# Altium integrated library Capacitor - Aluminium TH.IntLib: 4591 symbols (part 8 of 68)
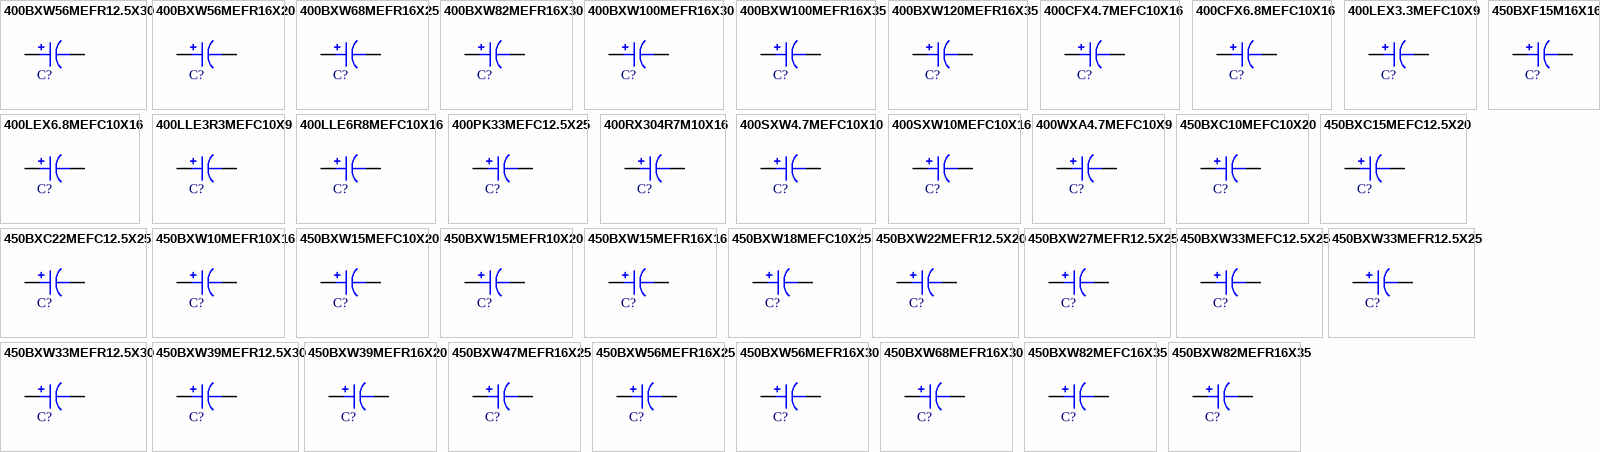
[diagram p121: symbols 400BXW56MEFR12.5X30 to 450BXW82MEFR16X35]

## 450BXW82MEFR16X35
designator C?, comment 82uF  (value not drawn)
CAP ALUM 82UF 20% 450V T/H; Part Number: 450BXW82MEFR16X35; Manufacturer: Rubycon; TemperatureRange: -40C ~ 105C; Type: Polar; Ripple Current: 690mA @ 120Hz; Value: 82uF; PartId: 27436; Supplier 1: Digi-Key; Supplier Part Number 1: 1189-3215-ND; ComponentLink1Description: Datasheet; ComponentLink1URL: http://www.rubycon.co.jp/en/catalog/e_pdfs/aluminum/e_BXW.pdf; ComponentLink2Description: Digi-Key Listing; ComponentLink2URL: https://www.digikey.com/product-detail/en/rubycon/450BXW82MEFR16X35/1189-3215-ND/6050089; Tolerance: 20%; Voltage: 450V; Price: 3.32; Device Package: Radial, Can, 16mm
footprint CAP AL TH D16 L7.5 H37
pins: 1, 2

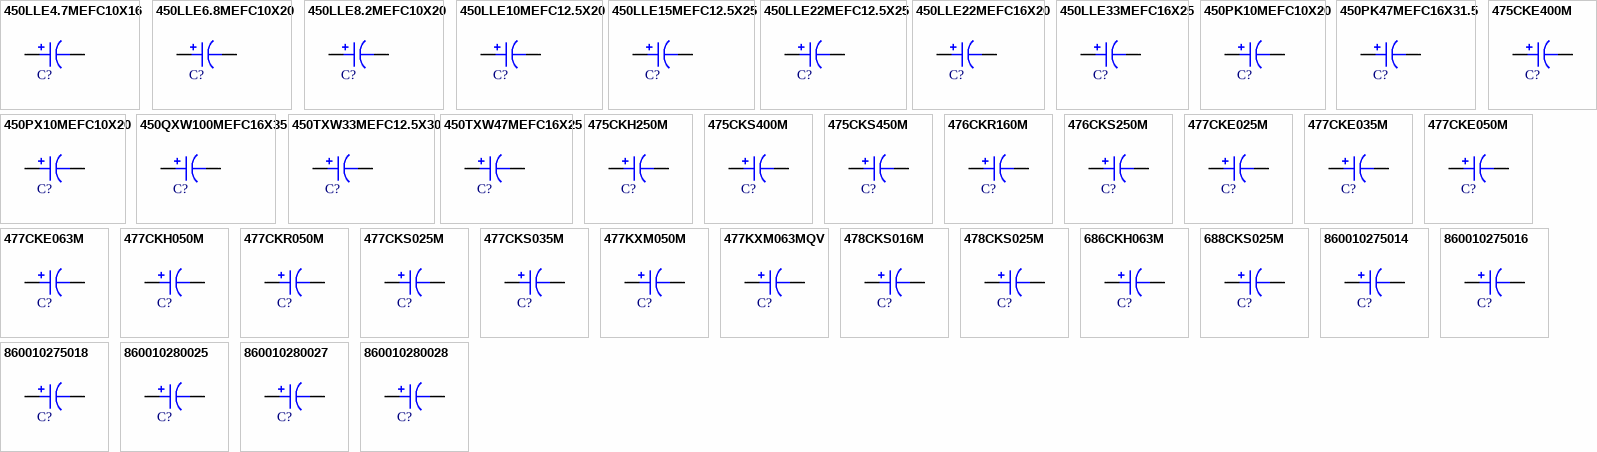
[diagram p12: symbols 450LLE4.7MEFC10X16 to 860010280028]

## 450LLE4.7MEFC10X16
designator C?, comment 4.7uF  (value not drawn)
CAP ALUM 4.7UF 20% 450V RADIAL; Part Number: 450LLE4.7MEFC10X16; Manufacturer: Rubycon; TemperatureRange: -25C ~ 105C; Ripple Current: 54mA; Value: 4.7uF; PartId: 25668; Supplier 1: Digi-Key; Supplier Part Number 1: 1189-2300-ND; ComponentLink1Description: Datasheet; ComponentLink1URL: http://www.rubycon.co.jp/en/catalog/e_pdfs/aluminum/e_lle.pdf; ComponentLink2Description: Digi-Key Listing; ComponentLink2URL: https://www.digikey.com/product-detail/en/rubycon/450LLE4.7MEFC10X16/1189-2300-ND/4842266; Tolerance: 20%; Voltage: 450V; Price: 0.77; Device Package: Radial, Can, 10mm
footprint CAP AL TH D10 L5 H22
pins: 1, 2

## 450LLE6.8MEFC10X20
designator C?, comment 6.8uF  (value not drawn)
CAP ALUM 6.8UF 20% 450V RADIAL; Part Number: 450LLE6.8MEFC10X20; Manufacturer: Rubycon; TemperatureRange: -25C ~ 105C; Ripple Current: 84mA; Value: 6.8uF; PartId: 25970; Supplier 1: Digi-Key; Supplier Part Number 1: 1189-2302-ND; ComponentLink1Description: Datasheet; ComponentLink1URL: http://www.rubycon.co.jp/en/catalog/e_pdfs/aluminum/e_lle.pdf; ComponentLink2Description: Digi-Key Listing; ComponentLink2URL: https://www.digikey.com/product-detail/en/rubycon/450LLE6.8MEFC10X20/1189-2302-ND/4842268; Tolerance: 20%; Voltage: 450V; Price: 0.86; Device Package: Radial, Can, 10mm
footprint CAP AL TH D10 L5 H22
pins: 1, 2

## 450LLE8.2MEFC10X20
designator C?, comment 8.2uF  (value not drawn)
CAP ALUM 8.2UF 20% 450V RADIAL; Part Number: 450LLE8.2MEFC10X20; Manufacturer: Rubycon; TemperatureRange: -25C ~ 105C; Ripple Current: 84mA; Value: 8.2uF; PartId: 25985; Supplier 1: Digi-Key; Supplier Part Number 1: 1189-2303-ND; ComponentLink1Description: Datasheet; ComponentLink1URL: http://www.rubycon.co.jp/en/catalog/e_pdfs/aluminum/e_lle.pdf; ComponentLink2Description: Digi-Key Listing; ComponentLink2URL: https://www.digikey.com/product-detail/en/rubycon/450LLE8.2MEFC10X20/1189-2303-ND/4842269; Tolerance: 20%; Voltage: 450V; Price: 0.94; Device Package: Radial, Can, 10mm
footprint CAP AL TH D10 L5 H22
pins: 1, 2

## 450LLE10MEFC12.5X20
designator C?, comment 10uF  (value not drawn)
CAP ALUM 10UF 20% 450V RADIAL; Part Number: 450LLE10MEFC12.5X20; Manufacturer: Rubycon; TemperatureRange: -25C ~ 105C; Ripple Current: 135mA; Value: 10uF; PartId: 23496; Supplier 1: Digi-Key; Supplier Part Number 1: 1189-2294-ND; ComponentLink1Description: Datasheet; ComponentLink1URL: http://www.rubycon.co.jp/en/catalog/e_pdfs/aluminum/e_lle.pdf; ComponentLink2Description: Digi-Key Listing; ComponentLink2URL: https://www.digikey.com/product-detail/en/rubycon/450LLE10MEFC12.5X20/1189-2294-ND/4842260; Tolerance: 20%; Voltage: 450V; Price: 1.21; Device Package: Radial, Can, 12.5mm
footprint CAP AL TH D12.5 L5 H22
pins: 1, 2

## 450LLE15MEFC12.5X25
designator C?, comment 15uF  (value not drawn)
CAP ALUM 15UF 20% 450V RADIAL; Part Number: 450LLE15MEFC12.5X25; Manufacturer: Rubycon; TemperatureRange: -25C ~ 105C; Ripple Current: 180mA; Value: 15uF; PartId: 24108; Supplier 1: Digi-Key; Supplier Part Number 1: 1189-2295-ND; ComponentLink1Description: Datasheet; ComponentLink1URL: http://www.rubycon.co.jp/en/catalog/e_pdfs/aluminum/e_lle.pdf; ComponentLink2Description: Digi-Key Listing; ComponentLink2URL: https://www.digikey.com/product-detail/en/rubycon/450LLE15MEFC12.5X25/1189-2295-ND/4842261; Tolerance: 20%; Voltage: 450V; Price: 1.36; Device Package: Radial, Can, 12.5mm
footprint CAP AL TH D12.5 L5 H27
pins: 1, 2

## 450LLE22MEFC12.5X25
designator C?, comment 22uF  (value not drawn)
CAP ALUM 22UF 20% 450V RADIAL; Part Number: 450LLE22MEFC12.5X25; Manufacturer: Rubycon; TemperatureRange: -25C ~ 105C; Ripple Current: 240mA; Value: 22uF; PartId: 24170; Supplier 1: Digi-Key; Supplier Part Number 1: 1189-2296-ND; ComponentLink1Description: Datasheet; ComponentLink1URL: http://www.rubycon.co.jp/en/catalog/e_pdfs/aluminum/e_lle.pdf; ComponentLink2Description: Digi-Key Listing; ComponentLink2URL: https://www.digikey.com/product-detail/en/rubycon/450LLE22MEFC12.5X25/1189-2296-ND/4842262; Tolerance: 20%; Voltage: 450V; Price: 1.68; Device Package: Radial, Can, 12.5mm
footprint CAP AL TH D12.5 L5 H27
pins: 1, 2

## 450LLE22MEFC16X20
designator C?, comment 22uF  (value not drawn)
CAP ALUM 22UF 20% 450V RADIAL; Part Number: 450LLE22MEFC16X20; Manufacturer: Rubycon; TemperatureRange: -25C ~ 105C; Ripple Current: 292mA; Value: 22uF; PartId: 26472; Supplier 1: Digi-Key; Supplier Part Number 1: 1189-2297-ND; ComponentLink1Description: Datasheet; ComponentLink1URL: http://www.rubycon.co.jp/en/catalog/e_pdfs/aluminum/e_lle.pdf; ComponentLink2Description: Digi-Key Listing; ComponentLink2URL: https://www.digikey.com/product-detail/en/rubycon/450LLE22MEFC16X20/1189-2297-ND/4842263; Tolerance: 20%; Voltage: 450V; Price: 1.7; Device Package: Radial, Can, 16mm
footprint CAP AL TH D16 L7.5 H22
pins: 1, 2

## 450LLE33MEFC16X25
designator C?, comment 33uF  (value not drawn)
CAP ALUM 33UF 20% 450V RADIAL; Part Number: 450LLE33MEFC16X25; Manufacturer: Rubycon; TemperatureRange: -25C ~ 105C; Ripple Current: 392mA; Value: 33uF; PartId: 26962; Supplier 1: Digi-Key; Supplier Part Number 1: 1189-2298-ND; ComponentLink1Description: Datasheet; ComponentLink1URL: http://www.rubycon.co.jp/en/catalog/e_pdfs/aluminum/e_lle.pdf; ComponentLink2Description: Digi-Key Listing; ComponentLink2URL: https://www.digikey.com/product-detail/en/rubycon/450LLE33MEFC16X25/1189-2298-ND/4842264; Tolerance: 20%; Voltage: 450V; Price: 2.16; Device Package: Radial, Can, 16mm
footprint CAP AL TH D16 L7.5 H27
pins: 1, 2

## 450PK10MEFC10X20
designator C?, comment 10uF  (value not drawn)
CAP ALUM 10UF 20% 450V RADIAL; Part Number: 450PK10MEFC10X20; Manufacturer: Rubycon; TemperatureRange: -25C ~ 85C; Ripple Current: 84mA; Value: 10uF; PartId: 25965; Supplier 1: Digi-Key; Supplier Part Number 1: 1189-2304-ND; ComponentLink1Description: Datasheet; ComponentLink1URL: http://www.rubycon.co.jp/en/catalog/e_pdfs/aluminum/e_pk.pdf; ComponentLink2Description: Digi-Key Listing; ComponentLink2URL: https://www.digikey.com/product-detail/en/rubycon/450PK10MEFC10X20/1189-2304-ND/4842270; Tolerance: 20%; Voltage: 450V; Price: 0.84; Device Package: Radial, Can, 10mm
footprint CAP AL TH D10 L5 H22
pins: 1, 2

## 450PK47MEFC16X31.5
designator C?, comment 47uF  (value not drawn)
CAP ALUM 47UF 20% 450V RADIAL; Part Number: 450PK47MEFC16X31.5; Manufacturer: Rubycon; TemperatureRange: -25C ~ 85C; Ripple Current: 220mA; Value: 47uF; PartId: 27085; Supplier 1: Digi-Key; Supplier Part Number 1: 1189-1372-ND; ComponentLink1Description: Datasheet; ComponentLink1URL: http://www.rubycon.co.jp/en/catalog/e_pdfs/aluminum/e_pk.pdf; ComponentLink2Description: Digi-Key Listing; ComponentLink2URL: https://www.digikey.com/product-detail/en/rubycon/450PK47MEFC16X31.5/1189-1372-ND/3134328; Tolerance: 20%; Voltage: 450V; Price: 1.7; Device Package: Radial, Can, 16mm
footprint CAP AL TH D16 L7.5 H33.5
pins: 1, 2

## 450PX10MEFC10X20
designator C?, comment 10uF  (value not drawn)
CAP ALUM 10UF 20% 450V RADIAL; Part Number: 450PX10MEFC10X20; Manufacturer: Rubycon; TemperatureRange: -25C ~ 105C; Type: Polar; Ripple Current: 37mA; Value: 10uF; PartId: 25963; Supplier 1: Digi-Key; Supplier Part Number 1: 1189-1751-ND; ComponentLink1Description: Datasheet; ComponentLink1URL: http://www.rubycon.co.jp/en/catalog/e_pdfs/aluminum/e_px.pdf; ComponentLink2Description: Digi-Key Listing; ComponentLink2URL: https://www.digikey.com/product-detail/en/rubycon/450PX10MEFC10X20/1189-1751-ND/3563768; Tolerance: 20%; Voltage: 450V; Price: 0.84; Device Package: Radial, Can, 10mm
footprint CAP AL TH D10 L5 H22
pins: 1, 2

## 450QXW100MEFC16X35
designator C?, comment 100uF  (value not drawn)
CAP ALUM 100UF 20% 450V RADIAL; Part Number: 450QXW100MEFC16X35; Manufacturer: Rubycon; TemperatureRange: -40C ~ 105C; Ripple Current: 730mA; Value: 100uF; PartId: 27429; Supplier 1: Digi-Key; Supplier Part Number 1: 1189-1376-ND; ComponentLink1Description: Datasheet; ComponentLink1URL: http://www.rubycon.co.jp/en/catalog/e_pdfs/aluminum/e_qxw.pdf; ComponentLink2Description: Digi-Key Listing; ComponentLink2URL: https://www.digikey.com/product-detail/en/rubycon/450QXW100MEFC16X35/1189-1376-ND/3134332; Tolerance: 20%; Voltage: 450V; Price: 3.03; Device Package: Radial, Can, 16mm
footprint CAP AL TH D16 L7.5 H37
pins: 1, 2

## 450TXW33MEFC12.5X30
designator C?, comment 33uF  (value not drawn)
CAP ALUM 33UF 20% 450V RADIAL; Part Number: 450TXW33MEFC12.5X30; Manufacturer: Rubycon; TemperatureRange: -25C ~ 105C; Type: Polar; Ripple Current: 370mA; Value: 33uF; PartId: 24411; Supplier 1: Digi-Key; Supplier Part Number 1: 1189-1387-ND; ComponentLink1Description: Datasheet; ComponentLink1URL: http://www.rubycon.co.jp/en/catalog/e_pdfs/aluminum/e_txw.pdf; ComponentLink2Description: Digi-Key Listing; ComponentLink2URL: https://www.digikey.com/product-detail/en/rubycon/450TXW33MEFC12.5X30/1189-1387-ND/3134343; Tolerance: 20%; Voltage: 450V; Price: 2.04; Device Package: Radial, Can, 12.5mm
footprint CAP AL TH D12.5 L5 H35.5
pins: 1, 2

## 450TXW47MEFC16X25
designator C?, comment 47uF  (value not drawn)
CAP ALUM 47UF 20% 450V RADIAL; Part Number: 450TXW47MEFC16X25; Manufacturer: Rubycon; TemperatureRange: -25C ~ 105C; Type: Polar; Ripple Current: 440mA; Value: 47uF; PartId: 27177; Supplier 1: Digi-Key; Supplier Part Number 1: 1189-1388-ND; ComponentLink1Description: Datasheet; ComponentLink1URL: http://www.rubycon.co.jp/en/catalog/e_pdfs/aluminum/e_txw.pdf; ComponentLink2Description: Digi-Key Listing; ComponentLink2URL: https://www.digikey.com/product-detail/en/rubycon/450TXW47MEFC16X25/1189-1388-ND/3134344; Tolerance: 20%; Voltage: 450V; Price: 1.94; Device Package: Radial, Can, 16mm
footprint CAP AL TH D16 L7.5 H33.5
pins: 1, 2

## 475CKE400M
designator C?, comment 4.7uF  (value not drawn)
CAP ALUM 4.7UF 20% 400V RADIAL; Part Number: 475CKE400M; Manufacturer: Illinois Capacitor; TemperatureRange: -25C ~ 105C; Type: Polar; Ripple Current: 55mA @ 120Hz; Value: 4.7uF; PartId: 25222; Supplier 1: Digi-Key; Supplier Part Number 1: 1572-1464-ND; ComponentLink1Description: Datasheet; ComponentLink1URL: http://www.illinoiscapacitor.com/pdf/seriesDocuments/CKH_CKE%20series.pdf; ComponentLink2Description: Digi-Key Listing; ComponentLink2URL: https://www.digikey.com/product-detail/en/illinois-capacitor/475CKE400M/1572-1464-ND/5412675; Tolerance: 20%; Voltage: 400V; Price: 0.54; Device Package: Radial, Can, 10mm
footprint CAP AL TH D10 L5 H17.5
pins: 1, 2

## 475CKH250M
designator C?, comment 4.7uF  (value not drawn)
CAP ALUM 4.7UF 20% 250V T/H; Part Number: 475CKH250M; Manufacturer: Illinois Capacitor; TemperatureRange: -25C ~ 105C; Type: Polar; Ripple Current: 60mA @ 120Hz; Value: 4.7uF; PartId: 24855; Supplier 1: Digi-Key; Supplier Part Number 1: 1572-1465-ND; ComponentLink1Description: Datasheet; ComponentLink1URL: http://www.illinoiscapacitor.com/pdf/seriesDocuments/CKH_CKE%20series.pdf; ComponentLink2Description: Digi-Key Listing; ComponentLink2URL: https://www.digikey.com/product-detail/en/illinois-capacitor/475CKH250M/1572-1465-ND/5412679; Tolerance: 20%; Voltage: 250V; Price: 0.47; Device Package: Radial, Can, 10mm
footprint CAP AL TH D10 L5 H14.5
pins: 1, 2

## 475CKS400M
designator C?, comment 4.7uF  (value not drawn)
CAP ALUM 4.7UF 20% 400V T/H; Part Number: 475CKS400M; Manufacturer: Illinois Capacitor; TemperatureRange: -25C ~ 85C; Type: Polar; Ripple Current: 70mA @ 120Hz; Value: 4.7uF; PartId: 25354; Supplier 1: Digi-Key; Supplier Part Number 1: 1572-1467-ND; ComponentLink1Description: Datasheet; ComponentLink1URL: http://www.illinoiscapacitor.com/pdf/seriesDocuments/CKR_CKS%20series.pdf; ComponentLink2Description: Digi-Key Listing; ComponentLink2URL: https://www.digikey.com/product-detail/en/illinois-capacitor/475CKS400M/1572-1467-ND/5412683; Tolerance: 20%; Voltage: 400V; Price: 0.69; Device Package: Radial, Can, 10mm
footprint CAP AL TH D10 L5 H17.5
pins: 1, 2

## 475CKS450M
designator C?, comment 4.7uF  (value not drawn)
CAP ALUM 4.7UF 20% 450V T/H; Part Number: 475CKS450M; Manufacturer: Illinois Capacitor; TemperatureRange: -25C ~ 85C; Type: Polar; Ripple Current: 75mA @ 120Hz; Value: 4.7uF; PartId: 25364; Supplier 1: Digi-Key; Supplier Part Number 1: 1572-1468-ND; ComponentLink1Description: Datasheet; ComponentLink1URL: http://www.illinoiscapacitor.com/pdf/seriesDocuments/CKR_CKS%20series.pdf; ComponentLink2Description: Digi-Key Listing; ComponentLink2URL: https://www.digikey.com/product-detail/en/illinois-capacitor/475CKS450M/1572-1468-ND/5412684; Tolerance: 20%; Voltage: 450V; Price: 0.71; Device Package: Radial, Can, 10mm
footprint CAP AL TH D10 L5 H17.5
pins: 1, 2

## 476CKR160M
designator C?, comment 47uF  (value not drawn)
CAP ALUM 47UF 20% 160V THRU HOLE; Part Number: 476CKR160M; Manufacturer: Illinois Capacitor; TemperatureRange: -25C ~ 85C; Type: Polar; Ripple Current: 270mA @ 120Hz; Value: 47uF; PartId: 23650; Supplier 1: Digi-Key; Supplier Part Number 1: 1572-1479-ND; ComponentLink1Description: Datasheet; ComponentLink1URL: http://www.illinoiscapacitor.com/pdf/seriesDocuments/CKR_CKS%20series.pdf; ComponentLink2Description: Digi-Key Listing; ComponentLink2URL: https://www.digikey.com/product-detail/en/illinois-capacitor/476CKR160M/1572-1479-ND/5412780; Tolerance: 20%; Voltage: 160V; Price: 0.8; Device Package: Radial, Can, 12.5mm
footprint CAP AL TH D12.5 L5 H26.5
pins: 1, 2

## 476CKS250M
designator C?, comment 47uF  (value not drawn)
CAP ALUM 47UF 20% 250V THRU HOLE; Part Number: 476CKS250M; Manufacturer: Illinois Capacitor; TemperatureRange: -25C ~ 85C; Type: Polar; Ripple Current: 350mA @ 120Hz; Value: 47uF; PartId: 23695; Supplier 1: Digi-Key; Supplier Part Number 1: 1572-1481-ND; ComponentLink1Description: Datasheet; ComponentLink1URL: http://www.illinoiscapacitor.com/pdf/seriesDocuments/CKR_CKS%20series.pdf; ComponentLink2Description: Digi-Key Listing; ComponentLink2URL: https://www.digikey.com/product-detail/en/illinois-capacitor/476CKS250M/1572-1481-ND/5412785; Tolerance: 20%; Voltage: 250V; Price: 1.06; Device Package: Radial, Can, 12.5mm
footprint CAP AL TH D12.5 L5 H26.5
pins: 1, 2

## 477CKE025M
designator C?, comment 470uF  (value not drawn)
CAP ALUM 470UF 20% 25V RADIAL; Part Number: 477CKE025M; Manufacturer: Illinois Capacitor; TemperatureRange: -40C ~ 105C; Type: Polar; Ripple Current: 470mA @ 120Hz; Value: 470uF; PartId: 24781; Supplier 1: Digi-Key; Supplier Part Number 1: 1572-1489-ND; ComponentLink1Description: Datasheet; ComponentLink1URL: http://www.illinoiscapacitor.com/pdf/seriesDocuments/CKH_CKE%20series.pdf; ComponentLink2Description: Digi-Key Listing; ComponentLink2URL: https://www.digikey.com/product-detail/en/illinois-capacitor/477CKE025M/1572-1489-ND/5412870; Tolerance: 20%; Voltage: 25V; Price: 0.44; Device Package: Radial, Can, 10mm
footprint CAP AL TH D10 L5 H14.5
pins: 1, 2

## 477CKE035M
designator C?, comment 470uF  (value not drawn)
CAP ALUM 470UF 20% 35V RADIAL; Part Number: 477CKE035M; Manufacturer: Illinois Capacitor; TemperatureRange: -40C ~ 105C; Type: Polar; Ripple Current: 546mA @ 120Hz; Value: 470uF; PartId: 25241; Supplier 1: Digi-Key; Supplier Part Number 1: 1572-1490-ND; ComponentLink1Description: Datasheet; ComponentLink1URL: http://www.illinoiscapacitor.com/pdf/seriesDocuments/CKH_CKE%20series.pdf; ComponentLink2Description: Digi-Key Listing; ComponentLink2URL: https://www.digikey.com/product-detail/en/illinois-capacitor/477CKE035M/1572-1490-ND/5412871; Tolerance: 20%; Voltage: 35V; Price: 0.56; Device Package: Radial, Can, 10mm
footprint CAP AL TH D10 L5 H17.5
pins: 1, 2

## 477CKE050M
designator C?, comment 470uF  (value not drawn)
CAP ALUM 470UF 20% 50V RADIAL; Part Number: 477CKE050M; Manufacturer: Illinois Capacitor; TemperatureRange: -40C ~ 105C; Type: Polar; Ripple Current: 705mA; Value: 470uF; PartId: 25616; Supplier 1: Digi-Key; Supplier Part Number 1: 1572-1148-ND; ComponentLink1Description: Datasheet; ComponentLink1URL: http://www.illinoiscapacitor.com/pdf/seriesDocuments/CKH_CKE%20series.pdf; ComponentLink2Description: Digi-Key Listing; ComponentLink2URL: https://www.digikey.com/product-detail/en/illinois-capacitor/477CKE050M/1572-1148-ND/5344078; Tolerance: 20%; Voltage: 50V; Price: 0.7; Device Package: Radial, Can, 10mm
footprint CAP AL TH D10 L5 H22
pins: 1, 2

## 477CKE063M
designator C?, comment 470uF  (value not drawn)
CAP ALUM 470UF 20% 63V RADIAL; Part Number: 477CKE063M; Manufacturer: Illinois Capacitor; TemperatureRange: -40C ~ 105C; Type: Polar; Ripple Current: 810mA; Value: 470uF; PartId: 22986; Supplier 1: Digi-Key; Supplier Part Number 1: 1572-1149-ND; ComponentLink1Description: Datasheet; ComponentLink1URL: http://www.illinoiscapacitor.com/pdf/seriesDocuments/CKH_CKE%20series.pdf; ComponentLink2Description: Digi-Key Listing; ComponentLink2URL: https://www.digikey.com/product-detail/en/illinois-capacitor/477CKE063M/1572-1149-ND/5344079; Tolerance: 20%; Voltage: 63V; Price: 0; Device Package: Radial, Can, 12.5mm
footprint CAP AL TH D12.5 L5 H21.5
pins: 1, 2

## 477CKH050M
designator C?, comment 470uF  (value not drawn)
RADIAL 105C LYTIC; Part Number: 477CKH050M; Manufacturer: Illinois Capacitor; TemperatureRange: -40C ~ 105C; Tolerance: 20%; Voltage: 50V; Type: Polar; Ripple Current: 630mA; Value: 470uF; PartId: 22949; Supplier 1: Digi-Key; Supplier Part Number 1: 1572-1150-ND; ComponentLink1Description: Datasheet; ComponentLink1URL: http://www.illinoiscapacitor.com/pdf/seriesDocuments/CKH_CKE%20series.pdf; ComponentLink2Description: Digi-Key Listing; ComponentLink2URL: https://www.digikey.com/product-detail/en/illinois-capacitor/477CKH050M/1572-1150-ND/5344080; Price: 0; Device Package: Radial, Can, 12.5mm
footprint CAP AL TH D12.5 L5 H21.5
pins: 1, 2

## 477CKR050M
designator C?, comment 470uF  (value not drawn)
RADIAL 85C LYTIC; Part Number: 477CKR050M; Manufacturer: Illinois Capacitor; TemperatureRange: -40C ~ 85C; Tolerance: 20%; Voltage: 50V; Type: Polar; Ripple Current: 930mA; Value: 470uF; PartId: 22948; Supplier 1: Digi-Key; Supplier Part Number 1: 1572-1151-ND; ComponentLink1Description: Datasheet; ComponentLink1URL: http://www.illinoiscapacitor.com/pdf/seriesDocuments/CKR_CKS%20series.pdf; ComponentLink2Description: Digi-Key Listing; ComponentLink2URL: https://www.digikey.com/product-detail/en/illinois-capacitor/477CKR050M/1572-1151-ND/5344081; Price: 0; Device Package: Radial, Can, 12.5mm
footprint CAP AL TH D12.5 L5 H21.5
pins: 1, 2

## 477CKS025M
designator C?, comment 470uF  (value not drawn)
CAP ALUM 470UF 20% 25V THRU HOLE; Part Number: 477CKS025M; Manufacturer: Illinois Capacitor; TemperatureRange: -40C ~ 85C; Type: Polar; Ripple Current: 630mA @ 120Hz; Value: 470uF; PartId: 24833; Supplier 1: Digi-Key; Supplier Part Number 1: 1572-1491-ND; ComponentLink1Description: Datasheet; ComponentLink1URL: http://www.illinoiscapacitor.com/pdf/seriesDocuments/CKR_CKS%20series.pdf; ComponentLink2Description: Digi-Key Listing; ComponentLink2URL: https://www.digikey.com/product-detail/en/illinois-capacitor/477CKS025M/1572-1491-ND/5412877; Tolerance: 20%; Voltage: 25V; Price: 0.46; Device Package: Radial, Can, 10mm
footprint CAP AL TH D10 L5 H14.5
pins: 1, 2

## 477CKS035M
designator C?, comment 470uF  (value not drawn)
RADIAL 85C LYTIC; Part Number: 477CKS035M; Manufacturer: Illinois Capacitor; TemperatureRange: -40C ~ 85C; Tolerance: 20%; Voltage: 35V; Type: Polar; Ripple Current: 755mA; Value: 470uF; PartId: 25214; Supplier 1: Digi-Key; Supplier Part Number 1: 1572-1152-ND; ComponentLink1Description: Datasheet; ComponentLink1URL: http://www.illinoiscapacitor.com/pdf/seriesDocuments/CKR_CKS%20series.pdf; ComponentLink2Description: Digi-Key Listing; ComponentLink2URL: https://www.digikey.com/product-detail/en/illinois-capacitor/477CKS035M/1572-1152-ND/5344082; Price: 0.52; Device Package: Radial, Can, 10mm
footprint CAP AL TH D10 L5 H17.5
pins: 1, 2

## 477KXM050M
designator C?, comment 470uF  (value not drawn)
RADIAL LOW Z; Part Number: 477KXM050M; Manufacturer: Illinois Capacitor; TemperatureRange: -55C ~ 105C; Tolerance: 20%; Voltage: 50V; Type: Polar; Ripple Current: 1.9A; Value: 470uF; PartId: 22950; Supplier 1: Digi-Key; Supplier Part Number 1: 1572-1153-ND; ComponentLink1Description: Datasheet; ComponentLink1URL: http://www.illinoiscapacitor.com/pdf/seriesDocuments/KXM%20series.pdf; ComponentLink2Description: Digi-Key Listing; ComponentLink2URL: https://www.digikey.com/product-detail/en/illinois-capacitor/477KXM050M/1572-1153-ND/5344083; Price: 0; Device Package: Radial, Can, 12.5mm
footprint CAP AL TH D12.5 L5 H21.5
pins: 1, 2

## 477KXM063MQV
designator C?, comment 470uF  (value not drawn)
RADIAL LOW Z; Part Number: 477KXM063MQV; Manufacturer: Illinois Capacitor; TemperatureRange: -55C ~ 105C; Tolerance: 20%; Voltage: 63V; Type: Polar; Ripple Current: 1.7A; Value: 470uF; PartId: 26564; Supplier 1: Digi-Key; Supplier Part Number 1: 1572-1154-ND; ComponentLink1Description: Datasheet; ComponentLink1URL: http://www.illinoiscapacitor.com/pdf/seriesDocuments/KXM%20series.pdf; ComponentLink2Description: Digi-Key Listing; ComponentLink2URL: https://www.digikey.com/product-detail/en/illinois-capacitor/477KXM063MQV/1572-1154-ND/5344084; Price: 1.12; Device Package: Radial, Can, 16mm
footprint CAP AL TH D16 L7.5 H26.5
pins: 1, 2

## 478CKS016M
designator C?, comment 4700uF  (value not drawn)
CAP ALUM 4700UF 20% 16V T/H; Part Number: 478CKS016M; Manufacturer: Illinois Capacitor; TemperatureRange: -40C ~ 85C; Type: Polar; Ripple Current: 2.49A @ 120Hz; Value: 4700uF; PartId: 26630; Supplier 1: Digi-Key; Supplier Part Number 1: 1572-1498-ND; ComponentLink1Description: Datasheet; ComponentLink1URL: http://www.illinoiscapacitor.com/pdf/seriesDocuments/CKR_CKS%20series.pdf; ComponentLink2Description: Digi-Key Listing; ComponentLink2URL: https://www.digikey.com/product-detail/en/illinois-capacitor/478CKS016M/1572-1498-ND/5412976; Tolerance: 20%; Voltage: 16V; Price: 1.44; Device Package: Radial, Can, 16mm
footprint CAP AL TH D16 L7.5 H26.5
pins: 1, 2

## 478CKS025M
designator C?, comment 4700uF  (value not drawn)
RADIAL 85C LYTIC; Part Number: 478CKS025M; Manufacturer: Illinois Capacitor; TemperatureRange: -40C ~ 85C; Tolerance: 20%; Voltage: 25V; Type: Polar; Ripple Current: 2.855A; Value: 4700uF; PartId: 27188; Supplier 1: Digi-Key; Supplier Part Number 1: 1572-1158-ND; ComponentLink1Description: Datasheet; ComponentLink1URL: http://www.illinoiscapacitor.com/pdf/seriesDocuments/CKR_CKS%20series.pdf; ComponentLink2Description: Digi-Key Listing; ComponentLink2URL: https://www.digikey.com/product-detail/en/illinois-capacitor/478CKS025M/1572-1158-ND/5344088; Price: 1.97; Device Package: Radial, Can, 16mm
footprint CAP AL TH D16 L7.5 H33.5
pins: 1, 2

## 686CKH063M
designator C?, comment 68uF  (value not drawn)
CAP ALUM 68UF 20% 63V THRU HOLE; Part Number: 686CKH063M; Manufacturer: Illinois Capacitor; TemperatureRange: -40C ~ 105C; Type: Polar; Ripple Current: 190mA @ 120Hz; Value: 68uF; PartId: 24804; Supplier 1: Digi-Key; Supplier Part Number 1: 1572-1511-ND; ComponentLink1Description: Datasheet; ComponentLink1URL: http://www.illinoiscapacitor.com/pdf/seriesDocuments/CKH_CKE%20series.pdf; ComponentLink2Description: Digi-Key Listing; ComponentLink2URL: https://www.digikey.com/product-detail/en/illinois-capacitor/686CKH063M/1572-1511-ND/5413267; Tolerance: 20%; Voltage: 63V; Price: 0.45; Device Package: Radial, Can, 10mm
footprint CAP AL TH D10 L5 H14.5
pins: 1, 2

## 688CKS025M
designator C?, comment 6800uF  (value not drawn)
CAP ALUM 6800UF 20% 25V T/H; Part Number: 688CKS025M; Manufacturer: Illinois Capacitor; TemperatureRange: -40C ~ 85C; Type: Polar; Ripple Current: 2.6A @ 120Hz; Value: 6800uF; PartId: 27388; Supplier 1: Digi-Key; Supplier Part Number 1: 1572-1512-ND; ComponentLink1Description: Datasheet; ComponentLink1URL: http://www.illinoiscapacitor.com/pdf/seriesDocuments/CKR_CKS%20series.pdf; ComponentLink2Description: Digi-Key Listing; ComponentLink2URL: https://www.digikey.com/product-detail/en/illinois-capacitor/688CKS025M/1572-1512-ND/5413336; Tolerance: 20%; Voltage: 25V; Price: 1.93; Device Package: Radial, Can, 16mm
footprint CAP AL TH D16 L7.5 H37
pins: 1, 2

## 860010275014
designator C?, comment 820uF  (value not drawn)
CAP 820 UF 20% 10 V; Part Number: 860010275014; Manufacturer: Wurth Electronics Inc; TemperatureRange: -40C ~ 85C; Voltage: 10V; Type: Polar; Ripple Current: 671mA @ 120Hz; Value: 820uF; PartId: 24694; Supplier 1: Digi-Key; Supplier Part Number 1: 732-8711-1-ND; ComponentLink1Description: Datasheet; ComponentLink1URL: http://katalog.we-online.de/pbs/datasheet/860010275014.pdf; ComponentLink2Description: Digi-Key Listing; ComponentLink2URL: https://www.digikey.com/product-detail/en/wurth-electronics-inc/860010275014/732-8711-1-ND/5728663; Tolerance: 20%; Price: 0.36; Device Package: Radial, Can, 10mm
footprint CAP AL TH D10 L5 H14.5
pins: 1, 2

## 860010275016
designator C?, comment 1000uF  (value not drawn)
CAP 1000 UF 20% 10 V; Part Number: 860010275016; Manufacturer: Wurth Electronics Inc; TemperatureRange: -40C ~ 85C; Voltage: 10V; Type: Polar; Ripple Current: 726mA @ 120Hz; Value: 1000uF; PartId: 24731; Supplier 1: Digi-Key; Supplier Part Number 1: 732-8713-1-ND; ComponentLink1Description: Datasheet; ComponentLink1URL: http://katalog.we-online.de/pbs/datasheet/860010275016.pdf; ComponentLink2Description: Digi-Key Listing; ComponentLink2URL: https://www.digikey.com/product-detail/en/wurth-electronics-inc/860010275016/732-8713-1-ND/5728665; Tolerance: 20%; Price: 0.41; Device Package: Radial, Can, 10mm
footprint CAP AL TH D10 L5 H14.5
pins: 1, 2

## 860010275018
designator C?, comment 1500uF  (value not drawn)
CAP 1500 UF 20% 10 V; Part Number: 860010275018; Manufacturer: Wurth Electronics Inc; TemperatureRange: -40C ~ 85C; Voltage: 10V; Type: Polar; Ripple Current: 1.001A @ 120Hz; Value: 1500uF; PartId: 25117; Supplier 1: Digi-Key; Supplier Part Number 1: 732-8715-3-ND; ComponentLink1Description: Datasheet; ComponentLink1URL: http://katalog.we-online.de/pbs/datasheet/860010275018.pdf; ComponentLink2Description: Digi-Key Listing; ComponentLink2URL: https://www.digikey.com/product-detail/en/wurth-electronics-inc/860010275018/732-8715-3-ND/5726959; Tolerance: 20%; Price: 0.32; Device Package: Radial, Can, 10mm
footprint CAP AL TH D10 L5 H17.5
pins: 1, 2

## 860010280025
designator C?, comment 5600uF  (value not drawn)
CAP 5600 UF 20% 10 V; Part Number: 860010280025; Manufacturer: Wurth Electronics Inc; TemperatureRange: -40C ~ 85C; Voltage: 10V; Type: Polar; Ripple Current: 2.189A @ 120Hz; Value: 5600uF; PartId: 26551; Supplier 1: Digi-Key; Supplier Part Number 1: 732-8722-3-ND; ComponentLink1Description: Datasheet; ComponentLink1URL: http://katalog.we-online.de/pbs/datasheet/860010280025.pdf; ComponentLink2Description: Digi-Key Listing; ComponentLink2URL: https://www.digikey.com/product-detail/en/wurth-electronics-inc/860010280025/732-8722-3-ND/5726966; Tolerance: 20%; Price: 1.0569; Device Package: Radial, Can, 16mm
footprint CAP AL TH D16 L7.5 H26.5
pins: 1, 2

## 860010280027
designator C?, comment 8200uF  (value not drawn)
CAP 8200 UF 20% 10 V; Part Number: 860010280027; Manufacturer: Wurth Electronics Inc; TemperatureRange: -40C ~ 85C; Voltage: 10V; Type: Polar; Ripple Current: 2.541A @ 120Hz; Value: 8200uF; PartId: 27016; Supplier 1: Digi-Key; Supplier Part Number 1: 732-8724-3-ND; ComponentLink1Description: Datasheet; ComponentLink1URL: http://katalog.we-online.de/pbs/datasheet/860010280027.pdf; ComponentLink2Description: Digi-Key Listing; ComponentLink2URL: https://www.digikey.com/product-detail/en/wurth-electronics-inc/860010280027/732-8724-3-ND/5726968; Tolerance: 20%; Price: 1.4256; Device Package: Radial, Can, 16mm
footprint CAP AL TH D16 L7.5 H33.5
pins: 1, 2

## 860010280028
designator C?, comment 10000uF  (value not drawn)
CAP 10000 UF 20% 10 V; Part Number: 860010280028; Manufacturer: Wurth Electronics Inc; TemperatureRange: -40C ~ 85C; Voltage: 10V; Type: Polar; Ripple Current: 2.64A @ 120Hz; Value: 10000uF; PartId: 27315; Supplier 1: Digi-Key; Supplier Part Number 1: 732-8725-3-ND; ComponentLink1Description: Datasheet; ComponentLink1URL: http://katalog.we-online.de/pbs/datasheet/860010280028.pdf; ComponentLink2Description: Digi-Key Listing; ComponentLink2URL: https://www.digikey.com/product-detail/en/wurth-electronics-inc/860010280028/732-8725-3-ND/5726969; Tolerance: 20%; Price: 1.4457; Device Package: Radial, Can, 16mm
footprint CAP AL TH D16 L7.5 H37
pins: 1, 2

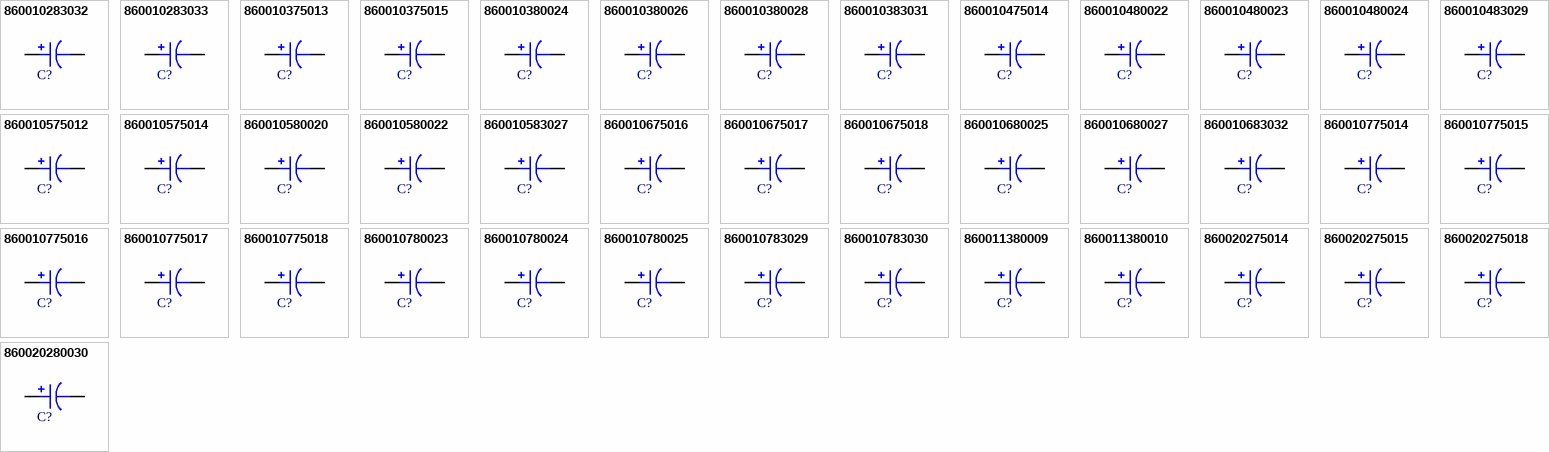
[diagram p13: symbols 860010283032 to 860020280030]

## 860010283032
designator C?, comment 22000uF  (value not drawn)
CAP 22000 UF 20% 10 V; Part Number: 860010283032; Manufacturer: Wurth Electronics Inc; TemperatureRange: -40C ~ 85C; Voltage: 10V; Type: Polar; Ripple Current: 4.092A @ 120Hz; Value: 22000uF; PartId: 27600; Supplier 1: Digi-Key; Supplier Part Number 1: 732-8729-ND; ComponentLink1Description: Datasheet; ComponentLink1URL: http://katalog.we-online.de/pbs/datasheet/860010283032.pdf; ComponentLink2Description: Digi-Key Listing; ComponentLink2URL: https://www.digikey.com/product-detail/en/wurth-electronics-inc/860010283032/732-8729-ND/5728194; Tolerance: 20%; Price: 6.35; Device Package: Radial, Can, 22mm
footprint CAP AL TH D22 L10 H43
pins: 1, 2

## 860010283033
designator C?, comment 33000uF  (value not drawn)
CAP 33000 UF 20% 10 V; Part Number: 860010283033; Manufacturer: Wurth Electronics Inc; TemperatureRange: -40C ~ 85C; Voltage: 10V; Type: Polar; Ripple Current: 4.62A @ 120Hz; Value: 33000uF; PartId: 27674; Supplier 1: Digi-Key; Supplier Part Number 1: 732-8730-ND; ComponentLink1Description: Datasheet; ComponentLink1URL: http://katalog.we-online.de/pbs/datasheet/860010283033.pdf; ComponentLink2Description: Digi-Key Listing; ComponentLink2URL: https://www.digikey.com/product-detail/en/wurth-electronics-inc/860010283033/732-8730-ND/5728195; Tolerance: 20%; Price: 8.21; Device Package: Radial, Can, 22mm
footprint CAP AL TH D22 L10 H53
pins: 1, 2

## 860010375013
designator C?, comment 560uF  (value not drawn)
CAP 560 UF 20% 16 V; Part Number: 860010375013; Manufacturer: Wurth Electronics Inc; TemperatureRange: -40C ~ 85C; Voltage: 16V; Type: Polar; Ripple Current: 572mA @ 120Hz; Value: 560uF; PartId: 24709; Supplier 1: Digi-Key; Supplier Part Number 1: 732-8605-1-ND; ComponentLink1Description: Datasheet; ComponentLink1URL: http://katalog.we-online.de/pbs/datasheet/860010375013.pdf; ComponentLink2Description: Digi-Key Listing; ComponentLink2URL: https://www.digikey.com/product-detail/en/wurth-electronics-inc/860010375013/732-8605-1-ND/5728562; Tolerance: 20%; Price: 0.38; Device Package: Radial, Can, 10mm
footprint CAP AL TH D10 L5 H14.5
pins: 1, 2

## 860010375015
designator C?, comment 680uF  (value not drawn)
CAP 680 UF 20% 16 V; Part Number: 860010375015; Manufacturer: Wurth Electronics Inc; TemperatureRange: -40C ~ 85C; Voltage: 16V; Type: Polar; Ripple Current: 682mA @ 120Hz; Value: 680uF; PartId: 24628; Supplier 1: Digi-Key; Supplier Part Number 1: 732-8607-3-ND; ComponentLink1Description: Datasheet; ComponentLink1URL: http://katalog.we-online.de/pbs/datasheet/860010375015.pdf; ComponentLink2Description: Digi-Key Listing; ComponentLink2URL: https://www.digikey.com/product-detail/en/wurth-electronics-inc/860010375015/732-8607-3-ND/5726856; Tolerance: 20%; Price: 0.2242; Device Package: Radial, Can, 10mm
footprint CAP AL TH D10 L5 H14.5
pins: 1, 2

## 860010380024
designator C?, comment 3900uF  (value not drawn)
CAP 3900 UF 20% 16 V; Part Number: 860010380024; Manufacturer: Wurth Electronics Inc; TemperatureRange: -40C ~ 85C; Voltage: 16V; Type: Polar; Ripple Current: 2.002A @ 120Hz; Value: 3900uF; PartId: 26538; Supplier 1: Digi-Key; Supplier Part Number 1: 732-8616-3-ND; ComponentLink1Description: Datasheet; ComponentLink1URL: http://katalog.we-online.de/pbs/datasheet/860010380024.pdf; ComponentLink2Description: Digi-Key Listing; ComponentLink2URL: https://www.digikey.com/product-detail/en/wurth-electronics-inc/860010380024/732-8616-3-ND/5726865; Tolerance: 20%; Price: 0.9648; Device Package: Radial, Can, 16mm
footprint CAP AL TH D16 L7.5 H26.5
pins: 1, 2

## 860010380026
designator C?, comment 5600uF  (value not drawn)
CAP 5600 UF 20% 16 V; Part Number: 860010380026; Manufacturer: Wurth Electronics Inc; TemperatureRange: -40C ~ 85C; Voltage: 16V; Type: Polar; Ripple Current: 2.453A @ 120Hz; Value: 5600uF; PartId: 26988; Supplier 1: Digi-Key; Supplier Part Number 1: 732-8618-3-ND; ComponentLink1Description: Datasheet; ComponentLink1URL: http://katalog.we-online.de/pbs/datasheet/860010380026.pdf; ComponentLink2Description: Digi-Key Listing; ComponentLink2URL: https://www.digikey.com/product-detail/en/wurth-electronics-inc/860010380026/732-8618-3-ND/5726867; Tolerance: 20%; Price: 1.2614; Device Package: Radial, Can, 16mm
footprint CAP AL TH D16 L7.5 H33.5
pins: 1, 2

## 860010380028
designator C?, comment 8200uF  (value not drawn)
CAP 8200 UF 20% 16 V; Part Number: 860010380028; Manufacturer: Wurth Electronics Inc; TemperatureRange: -40C ~ 85C; Voltage: 16V; Type: Polar; Ripple Current: 2.893A @ 120Hz; Value: 8200uF; PartId: 27346; Supplier 1: Digi-Key; Supplier Part Number 1: 732-8620-3-ND; ComponentLink1Description: Datasheet; ComponentLink1URL: http://katalog.we-online.de/pbs/datasheet/860010380028.pdf; ComponentLink2Description: Digi-Key Listing; ComponentLink2URL: https://www.digikey.com/product-detail/en/wurth-electronics-inc/860010380028/732-8620-3-ND/5726869; Tolerance: 20%; Price: 1.702; Device Package: Radial, Can, 16mm
footprint CAP AL TH D16 L7.5 H37
pins: 1, 2

## 860010383031
designator C?, comment 15000uF  (value not drawn)
CAP 15000 UF 20% 16 V; Part Number: 860010383031; Manufacturer: Wurth Electronics Inc; TemperatureRange: -40C ~ 85C; Voltage: 16V; Type: Polar; Ripple Current: 3.905A @ 120Hz; Value: 15000uF; PartId: 27599; Supplier 1: Digi-Key; Supplier Part Number 1: 732-8623-ND; ComponentLink1Description: Datasheet; ComponentLink1URL: http://katalog.we-online.de/pbs/datasheet/860010383031.pdf; ComponentLink2Description: Digi-Key Listing; ComponentLink2URL: https://www.digikey.com/product-detail/en/wurth-electronics-inc/860010383031/732-8623-ND/5728188; Tolerance: 20%; Price: 5.97; Device Package: Radial, Can, 22mm
footprint CAP AL TH D22 L10 H43
pins: 1, 2

## 860010475014
designator C?, comment 560uF  (value not drawn)
CAP 560 UF 20% 25 V; Part Number: 860010475014; Manufacturer: Wurth Electronics Inc; TemperatureRange: -40C ~ 85C; Voltage: 25V; Type: Polar; Ripple Current: 693mA @ 120Hz; Value: 560uF; PartId: 25089; Supplier 1: Digi-Key; Supplier Part Number 1: 732-8637-3-ND; ComponentLink1Description: Datasheet; ComponentLink1URL: http://katalog.we-online.de/pbs/datasheet/860010475014.pdf; ComponentLink2Description: Digi-Key Listing; ComponentLink2URL: https://www.digikey.com/product-detail/en/wurth-electronics-inc/860010475014/732-8637-3-ND/5726885; Tolerance: 20%; Price: 0.2545; Device Package: Radial, Can, 10mm
footprint CAP AL TH D10 L5 H17.5
pins: 1, 2

## 860010480022
designator C?, comment 2700uF  (value not drawn)
CAP 2700 UF 20% 25 V; Part Number: 860010480022; Manufacturer: Wurth Electronics Inc; TemperatureRange: -40C ~ 85C; Voltage: 25V; Type: Polar; Ripple Current: 1.804A @ 120Hz; Value: 2700uF; PartId: 26546; Supplier 1: Digi-Key; Supplier Part Number 1: 732-8645-3-ND; ComponentLink1Description: Datasheet; ComponentLink1URL: http://katalog.we-online.de/pbs/datasheet/860010480022.pdf; ComponentLink2Description: Digi-Key Listing; ComponentLink2URL: https://www.digikey.com/product-detail/en/wurth-electronics-inc/860010480022/732-8645-3-ND/5726893; Tolerance: 20%; Price: 1.0368; Device Package: Radial, Can, 16mm
footprint CAP AL TH D16 L7.5 H26.5
pins: 1, 2

## 860010480023
designator C?, comment 3300uF  (value not drawn)
CAP 3300 UF 20% 25 V; Part Number: 860010480023; Manufacturer: Wurth Electronics Inc; TemperatureRange: -40C ~ 85C; Voltage: 25V; Type: Polar; Ripple Current: 1.87A @ 120Hz; Value: 3300uF; PartId: 26547; Supplier 1: Digi-Key; Supplier Part Number 1: 732-8646-3-ND; ComponentLink1Description: Datasheet; ComponentLink1URL: http://katalog.we-online.de/pbs/datasheet/860010480023.pdf; ComponentLink2Description: Digi-Key Listing; ComponentLink2URL: https://www.digikey.com/product-detail/en/wurth-electronics-inc/860010480023/732-8646-3-ND/5726894; Tolerance: 20%; Price: 1.0397; Device Package: Radial, Can, 16mm
footprint CAP AL TH D16 L7.5 H26.5
pins: 1, 2

## 860010480024
designator C?, comment 3900uF  (value not drawn)
CAP 3900 UF 20% 25 V; Part Number: 860010480024; Manufacturer: Wurth Electronics Inc; TemperatureRange: -40C ~ 85C; Voltage: 25V; Type: Polar; Ripple Current: 2.343A @ 120Hz; Value: 3900uF; PartId: 27003; Supplier 1: Digi-Key; Supplier Part Number 1: 732-8647-3-ND; ComponentLink1Description: Datasheet; ComponentLink1URL: http://katalog.we-online.de/pbs/datasheet/860010480024.pdf; ComponentLink2Description: Digi-Key Listing; ComponentLink2URL: https://www.digikey.com/product-detail/en/wurth-electronics-inc/860010480024/732-8647-3-ND/5726895; Tolerance: 20%; Price: 1.3564; Device Package: Radial, Can, 16mm
footprint CAP AL TH D16 L7.5 H33.5
pins: 1, 2

## 860010483029
designator C?, comment 10000uF  (value not drawn)
CAP 10000 UF 20% 25 V; Part Number: 860010483029; Manufacturer: Wurth Electronics Inc; TemperatureRange: -40C ~ 85C; Voltage: 25V; Type: Polar; Ripple Current: 3.96A @ 120Hz; Value: 10000uF; PartId: 27598; Supplier 1: Digi-Key; Supplier Part Number 1: 732-8652-ND; ComponentLink1Description: Datasheet; ComponentLink1URL: http://katalog.we-online.de/pbs/datasheet/860010483029.pdf; ComponentLink2Description: Digi-Key Listing; ComponentLink2URL: https://www.digikey.com/product-detail/en/wurth-electronics-inc/860010483029/732-8652-ND/5728189; Tolerance: 20%; Price: 5.68; Device Package: Radial, Can, 22mm
footprint CAP AL TH D22 L10 H43
pins: 1, 2

## 860010575012
designator C?, comment 330uF  (value not drawn)
CAP 330 UF 20% 35 V; Part Number: 860010575012; Manufacturer: Wurth Electronics Inc; TemperatureRange: -40C ~ 85C; Voltage: 35V; Type: Polar; Ripple Current: 528mA @ 120Hz; Value: 330uF; PartId: 24732; Supplier 1: Digi-Key; Supplier Part Number 1: 732-8742-1-ND; ComponentLink1Description: Datasheet; ComponentLink1URL: http://katalog.we-online.de/pbs/datasheet/860010575012.pdf; ComponentLink2Description: Digi-Key Listing; ComponentLink2URL: https://www.digikey.com/product-detail/en/wurth-electronics-inc/860010575012/732-8742-1-ND/5728691; Tolerance: 20%; Price: 0.41; Device Package: Radial, Can, 10mm
footprint CAP AL TH D10 L5 H14.5
pins: 1, 2

## 860010575014
designator C?, comment 560uF  (value not drawn)
CAP 560 UF 20% 35 V; Part Number: 860010575014; Manufacturer: Wurth Electronics Inc; TemperatureRange: -40C ~ 85C; Voltage: 35V; Type: Polar; Ripple Current: 847mA @ 120Hz; Value: 560uF; PartId: 25488; Supplier 1: Digi-Key; Supplier Part Number 1: 732-8744-3-ND; ComponentLink1Description: Datasheet; ComponentLink1URL: http://katalog.we-online.de/pbs/datasheet/860010575014.pdf; ComponentLink2Description: Digi-Key Listing; ComponentLink2URL: https://www.digikey.com/product-detail/en/wurth-electronics-inc/860010575014/732-8744-3-ND/5726985; Tolerance: 20%; Price: 0.3603; Device Package: Radial, Can, 10mm
footprint CAP AL TH D10 L5 H22
pins: 1, 2

## 860010580020
designator C?, comment 1800uF  (value not drawn)
CAP 1800 UF 20% 35 V; Part Number: 860010580020; Manufacturer: Wurth Electronics Inc; TemperatureRange: -40C ~ 85C; Voltage: 35V; Type: Polar; Ripple Current: 1.749A @ 120Hz; Value: 1800uF; PartId: 26556; Supplier 1: Digi-Key; Supplier Part Number 1: 732-8750-3-ND; ComponentLink1Description: Datasheet; ComponentLink1URL: http://katalog.we-online.de/pbs/datasheet/860010580020.pdf; ComponentLink2Description: Digi-Key Listing; ComponentLink2URL: https://www.digikey.com/product-detail/en/wurth-electronics-inc/860010580020/732-8750-3-ND/5726991; Tolerance: 20%; Price: 1.0857; Device Package: Radial, Can, 16mm
footprint CAP AL TH D16 L7.5 H26.5
pins: 1, 2

## 860010580022
designator C?, comment 2700uF  (value not drawn)
CAP 2700 UF 20% 35 V; Part Number: 860010580022; Manufacturer: Wurth Electronics Inc; TemperatureRange: -40C ~ 85C; Voltage: 35V; Type: Polar; Ripple Current: 2.178A @ 120Hz; Value: 2700uF; PartId: 27042; Supplier 1: Digi-Key; Supplier Part Number 1: 732-8752-3-ND; ComponentLink1Description: Datasheet; ComponentLink1URL: http://katalog.we-online.de/pbs/datasheet/860010580022.pdf; ComponentLink2Description: Digi-Key Listing; ComponentLink2URL: https://www.digikey.com/product-detail/en/wurth-electronics-inc/860010580022/732-8752-3-ND/5726993; Tolerance: 20%; Price: 1.5436; Device Package: Radial, Can, 16mm
footprint CAP AL TH D16 L7.5 H33.5
pins: 1, 2

## 860010583027
designator C?, comment 6800uF  (value not drawn)
CAP 6800 UF 20% 35 V; Part Number: 860010583027; Manufacturer: Wurth Electronics Inc; TemperatureRange: -40C ~ 85C; Voltage: 35V; Type: Polar; Ripple Current: 3.63A @ 100kHz; Value: 6800uF; PartId: 27597; Supplier 1: Digi-Key; Supplier Part Number 1: 732-8757-ND; ComponentLink1Description: Datasheet; ComponentLink1URL: http://katalog.we-online.de/pbs/datasheet/860010583027.pdf; ComponentLink2Description: Digi-Key Listing; ComponentLink2URL: https://www.digikey.com/product-detail/en/wurth-electronics-inc/860010583027/732-8757-ND/5728197; Tolerance: 20%; Price: 5.2; Device Package: Radial, Can, 22mm
footprint CAP AL TH D22 L10 H43
pins: 1, 2

## 860010675016
designator C?, comment 150uF  (value not drawn)
CAP 150 UF 20% 50 V; Part Number: 860010675016; Manufacturer: Wurth Electronics Inc; TemperatureRange: -40C ~ 85C; Voltage: 50V; Type: Polar; Ripple Current: 363mA @ 120Hz; Value: 150uF; PartId: 24714; Supplier 1: Digi-Key; Supplier Part Number 1: 732-8668-1-ND; ComponentLink1Description: Datasheet; ComponentLink1URL: http://katalog.we-online.de/pbs/datasheet/860010675016.pdf; ComponentLink2Description: Digi-Key Listing; ComponentLink2URL: https://www.digikey.com/product-detail/en/wurth-electronics-inc/860010675016/732-8668-1-ND/5728623; Tolerance: 20%; Price: 0.39; Device Package: Radial, Can, 10mm
footprint CAP AL TH D10 L5 H14.5
pins: 1, 2

## 860010675017
designator C?, comment 180uF  (value not drawn)
CAP 180 UF 20% 50 V; Part Number: 860010675017; Manufacturer: Wurth Electronics Inc; TemperatureRange: -40C ~ 85C; Voltage: 50V; Type: Polar; Ripple Current: 418mA @ 120Hz; Value: 180uF; PartId: 24862; Supplier 1: Digi-Key; Supplier Part Number 1: 732-8669-1-ND; ComponentLink1Description: Datasheet; ComponentLink1URL: http://katalog.we-online.de/pbs/datasheet/860010675017.pdf; ComponentLink2Description: Digi-Key Listing; ComponentLink2URL: https://www.digikey.com/product-detail/en/wurth-electronics-inc/860010675017/732-8669-1-ND/5728624; Tolerance: 20%; Price: 0.47; Device Package: Radial, Can, 10mm
footprint CAP AL TH D10 L5 H14.5
pins: 1, 2

## 860010675018
designator C?, comment 220uF  (value not drawn)
CAP 220 UF 20% 50 V; Part Number: 860010675018; Manufacturer: Wurth Electronics Inc; TemperatureRange: -40C ~ 85C; Voltage: 50V; Type: Polar; Ripple Current: 468mA @ 120Hz; Value: 220uF; PartId: 24660; Supplier 1: Digi-Key; Supplier Part Number 1: 732-8670-3-ND; ComponentLink1Description: Datasheet; ComponentLink1URL: http://katalog.we-online.de/pbs/datasheet/860010675018.pdf; ComponentLink2Description: Digi-Key Listing; ComponentLink2URL: https://www.digikey.com/product-detail/en/wurth-electronics-inc/860010675018/732-8670-3-ND/5726917; Tolerance: 20%; Price: 0.2646; Device Package: Radial, Can, 10mm
footprint CAP AL TH D10 L5 H14.5
pins: 1, 2

## 860010680025
designator C?, comment 1200uF  (value not drawn)
CAP 1200 UF 20% 50 V; Part Number: 860010680025; Manufacturer: Wurth Electronics Inc; TemperatureRange: -40C ~ 85C; Voltage: 50V; Type: Polar; Ripple Current: 1.617A @ 120Hz; Value: 1200uF; PartId: 26646; Supplier 1: Digi-Key; Supplier Part Number 1: 732-8677-3-ND; ComponentLink1Description: Datasheet; ComponentLink1URL: http://katalog.we-online.de/pbs/datasheet/860010680025.pdf; ComponentLink2Description: Digi-Key Listing; ComponentLink2URL: https://www.digikey.com/product-detail/en/wurth-electronics-inc/860010680025/732-8677-3-ND/5726924; Tolerance: 20%; Price: 1.5321; Device Package: Radial, Can, 16mm
footprint CAP AL TH D16 L7.5 H26.5
pins: 1, 2

## 860010680027
designator C?, comment 1800uF  (value not drawn)
CAP 1800 UF 20% 50 V; Part Number: 860010680027; Manufacturer: Wurth Electronics Inc; TemperatureRange: -40C ~ 85C; Voltage: 50V; Type: Polar; Ripple Current: 2.112A @ 120Hz; Value: 1800uF; PartId: 27088; Supplier 1: Digi-Key; Supplier Part Number 1: 732-8679-3-ND; ComponentLink1Description: Datasheet; ComponentLink1URL: http://katalog.we-online.de/pbs/datasheet/860010680027.pdf; ComponentLink2Description: Digi-Key Listing; ComponentLink2URL: https://www.digikey.com/product-detail/en/wurth-electronics-inc/860010680027/732-8679-3-ND/5726926; Tolerance: 20%; Price: 1.7107; Device Package: Radial, Can, 16mm
footprint CAP AL TH D16 L7.5 H33.5
pins: 1, 2

## 860010683032
designator C?, comment 4700uF  (value not drawn)
CAP 4700 UF 20% 50 V; Part Number: 860010683032; Manufacturer: Wurth Electronics Inc; TemperatureRange: -40C ~ 85C; Voltage: 50V; Type: Polar; Ripple Current: 3.355A @ 120Hz; Value: 4700uF; PartId: 27601; Supplier 1: Digi-Key; Supplier Part Number 1: 732-8684-ND; ComponentLink1Description: Datasheet; ComponentLink1URL: http://katalog.we-online.de/pbs/datasheet/860010683032.pdf; ComponentLink2Description: Digi-Key Listing; ComponentLink2URL: https://www.digikey.com/product-detail/en/wurth-electronics-inc/860010683032/732-8684-ND/5728191; Tolerance: 20%; Price: 6.61; Device Package: Radial, Can, 22mm
footprint CAP AL TH D22 L10 H43
pins: 1, 2

## 860010775014
designator C?, comment 100uF  (value not drawn)
CAP 100 UF 20% 63 V; Part Number: 860010775014; Manufacturer: Wurth Electronics Inc; TemperatureRange: -40C ~ 85C; Voltage: 63V; Type: Polar; Ripple Current: 330mA @ 120Hz; Value: 100uF; PartId: 24717; Supplier 1: Digi-Key; Supplier Part Number 1: 732-8771-1-ND; ComponentLink1Description: Datasheet; ComponentLink1URL: http://katalog.we-online.de/pbs/datasheet/860010775014.pdf; ComponentLink2Description: Digi-Key Listing; ComponentLink2URL: https://www.digikey.com/product-detail/en/wurth-electronics-inc/860010775014/732-8771-1-ND/5728718; Tolerance: 20%; Price: 0.4; Device Package: Radial, Can, 10mm
footprint CAP AL TH D10 L5 H14.5
pins: 1, 2

## 860010775015
designator C?, comment 120uF  (value not drawn)
CAP 120 UF 20% 63 V; Part Number: 860010775015; Manufacturer: Wurth Electronics Inc; TemperatureRange: -40C ~ 85C; Voltage: 63V; Type: Polar; Ripple Current: 396mA @ 120Hz; Value: 120uF; PartId: 25120; Supplier 1: Digi-Key; Supplier Part Number 1: 732-8772-3-ND; ComponentLink1Description: Datasheet; ComponentLink1URL: http://katalog.we-online.de/pbs/datasheet/860010775015.pdf; ComponentLink2Description: Digi-Key Listing; ComponentLink2URL: https://www.digikey.com/product-detail/en/wurth-electronics-inc/860010775015/732-8772-3-ND/5727011; Tolerance: 20%; Price: 0.325; Device Package: Radial, Can, 10mm
footprint CAP AL TH D10 L5 H17.5
pins: 1, 2

## 860010775016
designator C?, comment 150uF  (value not drawn)
CAP 150 UF 20% 63 V; Part Number: 860010775016; Manufacturer: Wurth Electronics Inc; TemperatureRange: -40C ~ 85C; Voltage: 63V; Type: Polar; Ripple Current: 462mA @ 120Hz; Value: 150uF; PartId: 25127; Supplier 1: Digi-Key; Supplier Part Number 1: 732-8773-3-ND; ComponentLink1Description: Datasheet; ComponentLink1URL: http://katalog.we-online.de/pbs/datasheet/860010775016.pdf; ComponentLink2Description: Digi-Key Listing; ComponentLink2URL: https://www.digikey.com/product-detail/en/wurth-electronics-inc/860010775016/732-8773-3-ND/5727012; Tolerance: 20%; Price: 0.3402; Device Package: Radial, Can, 10mm
footprint CAP AL TH D10 L5 H17.5
pins: 1, 2

## 860010775017
designator C?, comment 180uF  (value not drawn)
CAP 180 UF 20% 63 V; Part Number: 860010775017; Manufacturer: Wurth Electronics Inc; TemperatureRange: -40C ~ 85C; Voltage: 63V; Type: Polar; Ripple Current: 528mA @ 120Hz; Value: 180uF; PartId: 25132; Supplier 1: Digi-Key; Supplier Part Number 1: 732-8774-3-ND; ComponentLink1Description: Datasheet; ComponentLink1URL: http://katalog.we-online.de/pbs/datasheet/860010775017.pdf; ComponentLink2Description: Digi-Key Listing; ComponentLink2URL: https://www.digikey.com/product-detail/en/wurth-electronics-inc/860010775017/732-8774-3-ND/5727013; Tolerance: 20%; Price: 0.3502; Device Package: Radial, Can, 10mm
footprint CAP AL TH D10 L5 H17.5
pins: 1, 2